# Altium integrated library U.FL.IntLib: 1 symbol
Pins are listed as number, name and electrical type; pins without a type are passive.

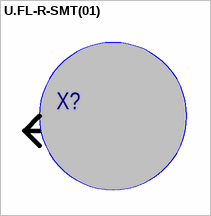
[diagram p0: symbol U.FL-R-SMT(01)]

## U.FL-R-SMT(01)
designator X?  (value not drawn)
BCPId: *; Name: *; Type: Вилка
footprint U.FL-R-SMT
pins: 1, 2 hidden to GND "GND"